# Altium schematic symbol library SSW-110-03-T-S.SchLib: 1 symbol
Pins are listed as number, name and electrical type; pins without a type are passive.

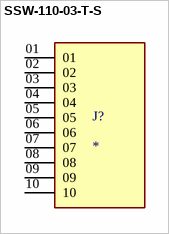
[diagram p0: symbol SSW-110-03-T-S]

## SSW-110-03-T-S
designator J?
MF: Samtec; MP: SSW-110-03-T-S; Availability: Unavailable; Price: None; Package: None; Value: *
footprint SAMTEC_SSW-110-03-T-S
pins: 01, 02, 03, 04, 05, 06, 07, 08, 09, 10